# EAGLE library part SIM7020E_NB-IOT_HAT (library SIM_A7670E_CAT-1_GNSS_HAT)
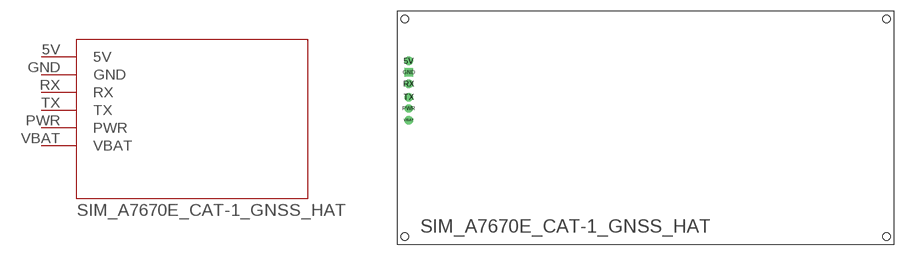
[diagram p0: symbol with the pads of SIM7020E_NB-IOT_HAT; footprint SIM7020E_NB-IOT_HAT]

Designator prefix -

## SIM7020E_NB-IOT_HAT  [SIM7020E_NB-IOT_HAT]
5V  5V
GND  GND
PWR  PWR
RX  RX
TX  TX
VBAT  VBAT

## Footprint SIM7020E_NB-IOT_HAT (pad centres in mm)
drill 0.6: 5V 1.5,24; PWR 1.5,17.78; RX 1.5,21; TX 1.5,19.27; VBAT 1.5,16.27
drill 0.6 square: GND 1.5,22.5
hole 1 at 1,29.5
hole 1 at 64,29.5
hole 1 at 64,1
hole 1 at 1,1